# Altium schematic symbol library YD-3410_2022-03-15.SCHLIB: 1 symbol
Pins are listed as number, name and electrical type; pins without a type are passive.

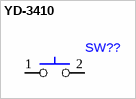
[diagram p0: symbol YD-3410]

## YD-3410
designator SW??
footprint SW-SMD_L3.9-W2.9-LS4.8-EH-A
pins: 1, 2